# Altium schematic symbol library Connectors-FFC_FPC.SchLib: 37 symbols
Pins are listed as number, name and electrical type; pins without a type are passive.

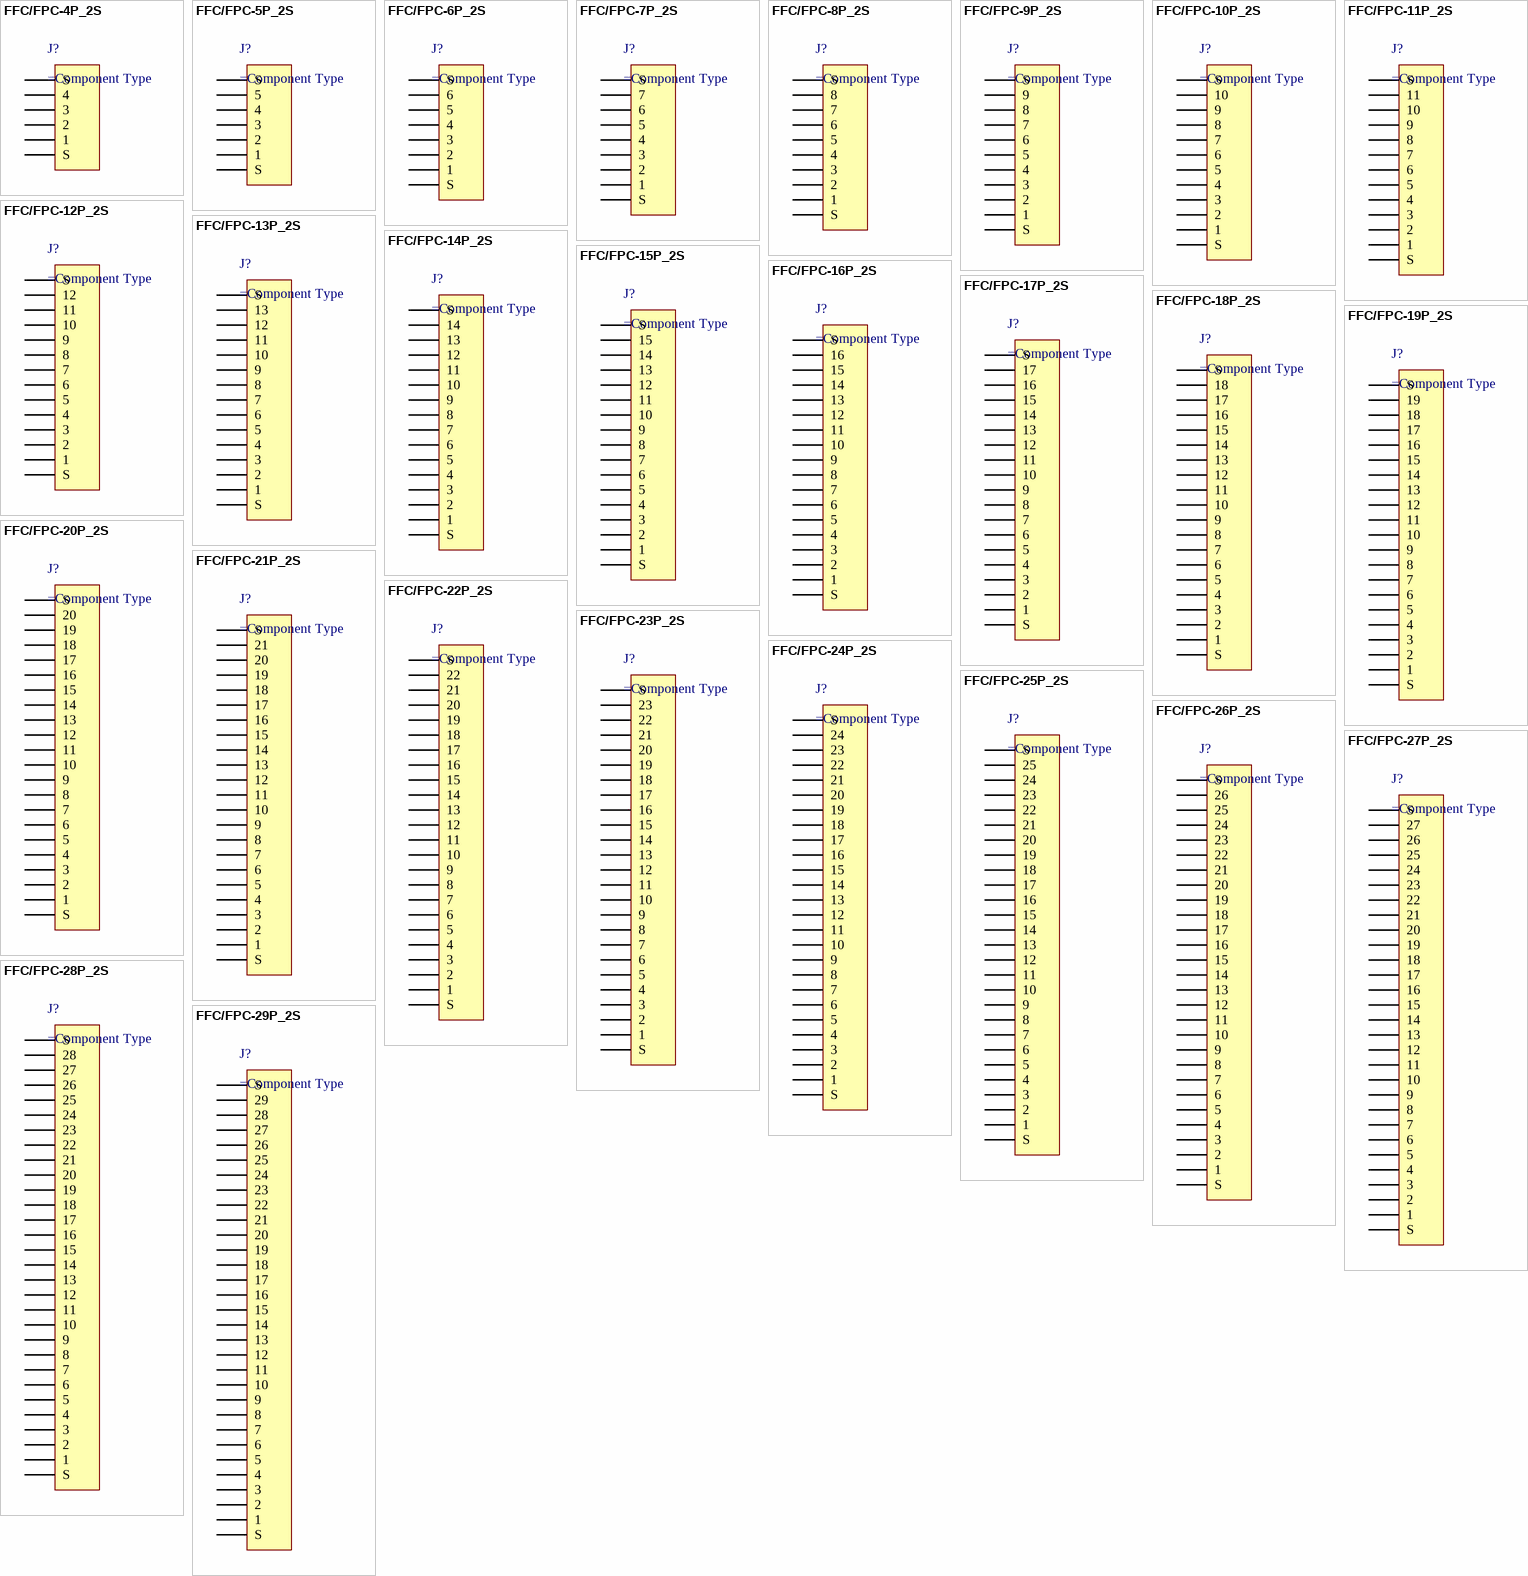
[diagram p0: symbols FFC/FPC-4P_2S to FFC/FPC-29P_2S]

## FFC/FPC-4P_2S
designator J?
pins: 1, 2, 3, 4, 5 S, 6 S

## FFC/FPC-5P_2S
designator J?
pins: 1, 2, 3, 4, 5, 6 S, 7 S

## FFC/FPC-6P_2S
designator J?
pins: 1, 2, 3, 4, 5, 6, 7 S, 8 S

## FFC/FPC-7P_2S
designator J?
pins: 1, 2, 3, 4, 5, 6, 7, 8 S, 9 S

## FFC/FPC-8P_2S
designator J?
pins: 1, 2, 3, 4, 5, 6, 7, 8, 9 S, 10 S

## FFC/FPC-9P_2S
designator J?
pins: 1, 2, 3, 4, 5, 6, 7, 8, 9, 10 S, 11 S

## FFC/FPC-10P_2S
designator J?
pins: 1, 2, 3, 4, 5, 6, 7, 8, 9, 10, 11 S, 12 S

## FFC/FPC-11P_2S
designator J?
pins: 1, 2, 3, 4, 5, 6, 7, 8, 9, 10, 11, 12 S, 13 S

## FFC/FPC-12P_2S
designator J?
pins: 1, 2, 3, 4, 5, 6, 7, 8, 9, 10, 11, 12, 13 S, 14 S

## FFC/FPC-13P_2S
designator J?
pins: 1, 2, 3, 4, 5, 6, 7, 8, 9, 10, 11, 12, 13, 14 S, 15 S

## FFC/FPC-14P_2S
designator J?
pins: 1, 2, 3, 4, 5, 6, 7, 8, 9, 10, 11, 12, 13, 14, 15 S, 16 S

## FFC/FPC-15P_2S
designator J?
pins: 1, 2, 3, 4, 5, 6, 7, 8, 9, 10, 11, 12, 13, 14, 15, 16 S, 17 S

## FFC/FPC-16P_2S
designator J?
pins: 1, 2, 3, 4, 5, 6, 7, 8, 9, 10, 11, 12, 13, 14, 15, 16, 17 S, 18 S

## FFC/FPC-17P_2S
designator J?
pins: 1, 2, 3, 4, 5, 6, 7, 8, 9, 10, 11, 12, 13, 14, 15, 16, 17, 18 S, 19 S

## FFC/FPC-18P_2S
designator J?
pins: 1, 2, 3, 4, 5, 6, 7, 8, 9, 10, 11, 12, 13, 14, 15, 16, 17, 18, 19 S, 20 S

## FFC/FPC-19P_2S
designator J?
pins: 1, 2, 3, 4, 5, 6, 7, 8, 9, 10, 11, 12, 13, 14, 15, 16, 17, 18, 19, 20 S, 21 S

## FFC/FPC-20P_2S
designator J?
pins: 1, 2, 3, 4, 5, 6, 7, 8, 9, 10, 11, 12, 13, 14, 15, 16, 17, 18, 19, 20, 21 S, 22 S

## FFC/FPC-21P_2S
designator J?
pins: 1, 2, 3, 4, 5, 6, 7, 8, 9, 10, 11, 12, 13, 14, 15, 16, 17, 18, 19, 20, 21, 22 S, 23 S

## FFC/FPC-22P_2S
designator J?
pins: 1, 2, 3, 4, 5, 6, 7, 8, 9, 10, 11, 12, 13, 14, 15, 16, 17, 18, 19, 20, 21, 22, 23 S, 24 S

## FFC/FPC-23P_2S
designator J?
pins: 1, 2, 3, 4, 5, 6, 7, 8, 9, 10, 11, 12, 13, 14, 15, 16, 17, 18, 19, 20, 21, 22, 23, 24 S, 25 S

## FFC/FPC-24P_2S
designator J?
pins: 1, 2, 3, 4, 5, 6, 7, 8, 9, 10, 11, 12, 13, 14, 15, 16, 17, 18, 19, 20, 21, 22, 23, 24, 25 S, 26 S

## FFC/FPC-25P_2S
designator J?
pins: 1, 2, 3, 4, 5, 6, 7, 8, 9, 10, 11, 12, 13, 14, 15, 16, 17, 18, 19, 20, 21, 22, 23, 24, 25, 26 S, 27 S

## FFC/FPC-26P_2S
designator J?
pins: 1, 2, 3, 4, 5, 6, 7, 8, 9, 10, 11, 12, 13, 14, 15, 16, 17, 18, 19, 20, 21, 22, 23, 24, 25, 26, 27 S, 28 S

## FFC/FPC-27P_2S
designator J?
pins: 1, 2, 3, 4, 5, 6, 7, 8, 9, 10, 11, 12, 13, 14, 15, 16, 17, 18, 19, 20, 21, 22, 23, 24, 25, 26, 27, 28 S, 29 S

## FFC/FPC-28P_2S
designator J?
pins: 1, 2, 3, 4, 5, 6, 7, 8, 9, 10, 11, 12, 13, 14, 15, 16, 17, 18, 19, 20, 21, 22, 23, 24, 25, 26, 27, 28, 29 S, 30 S

## FFC/FPC-29P_2S
designator J?
pins: 1, 2, 3, 4, 5, 6, 7, 8, 9, 10, 11, 12, 13, 14, 15, 16, 17, 18, 19, 20, 21, 22, 23, 24, 25, 26, 27, 28, 29, 30 S, 31 S

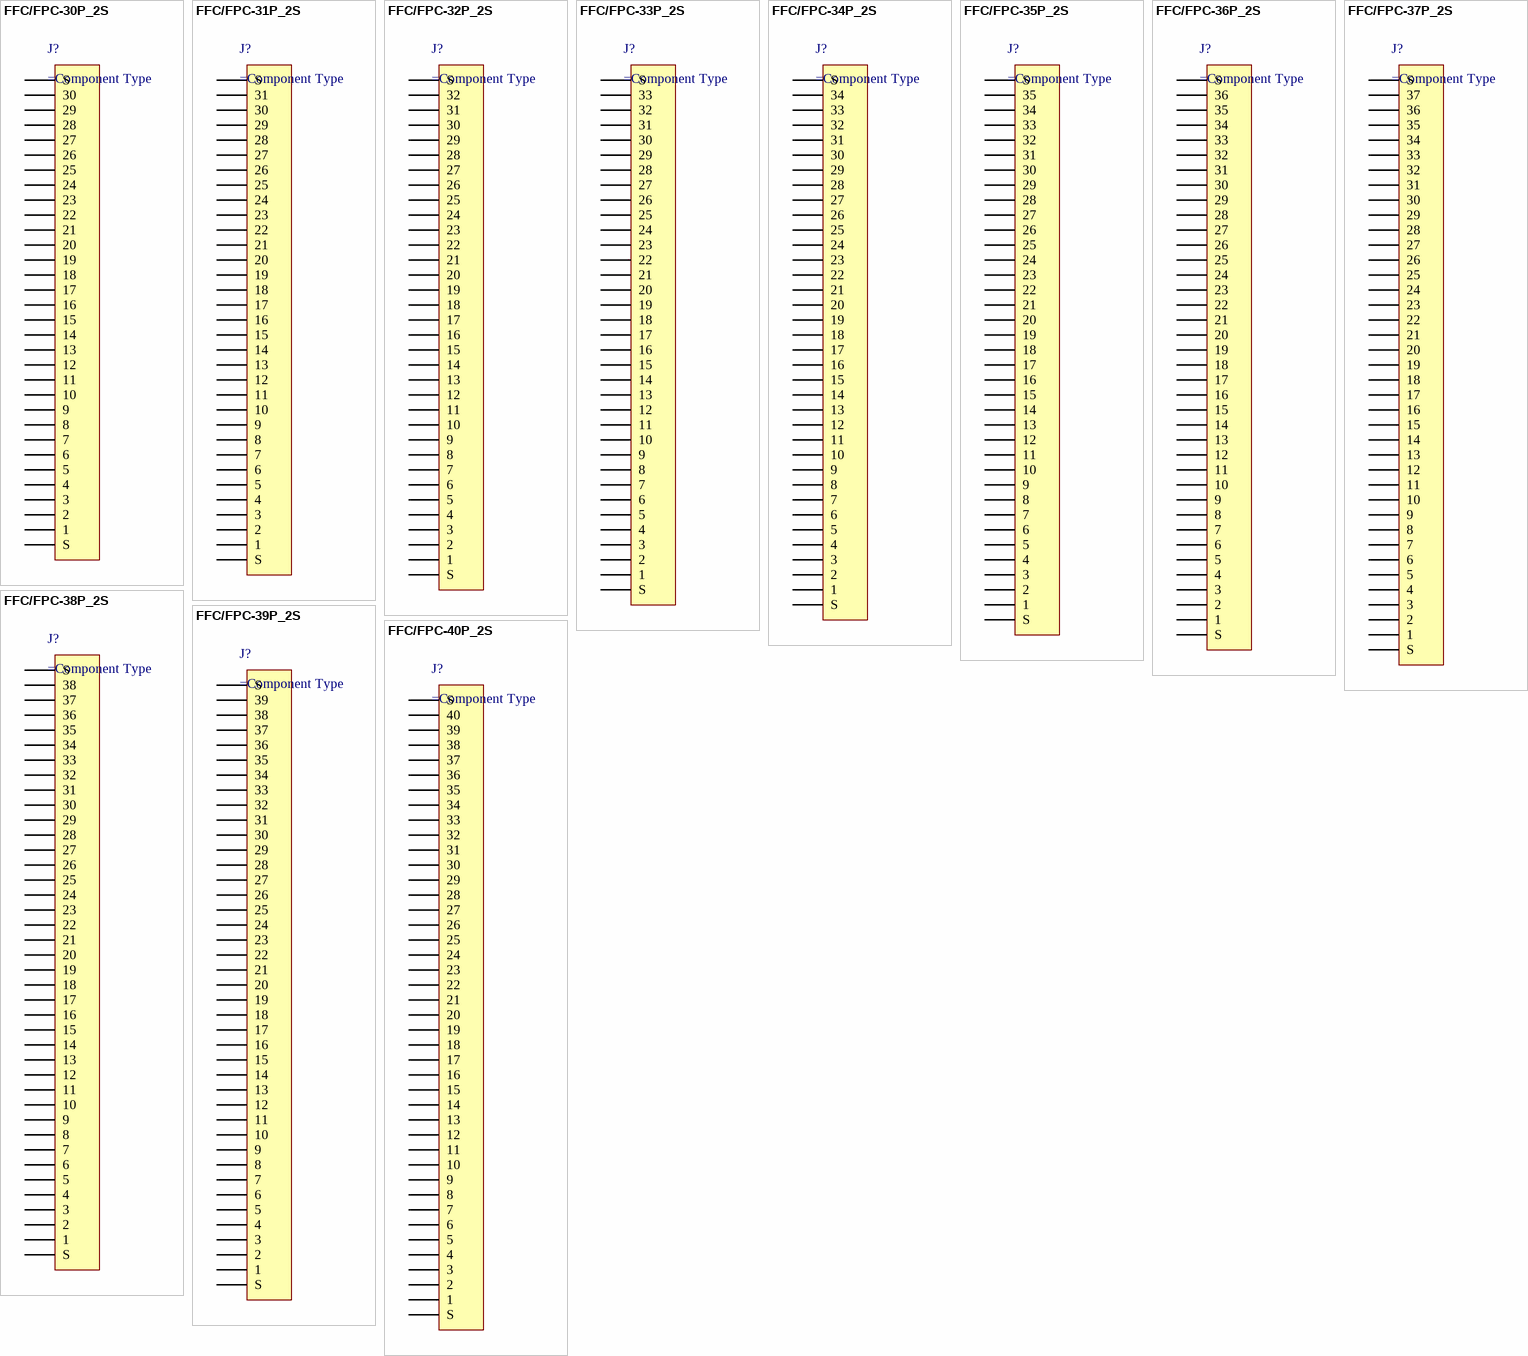
[diagram p1: symbols FFC/FPC-30P_2S to FFC/FPC-40P_2S]

## FFC/FPC-30P_2S
designator J?
pins: 1, 2, 3, 4, 5, 6, 7, 8, 9, 10, 11, 12, 13, 14, 15, 16, 17, 18, 19, 20, 21, 22, 23, 24, 25, 26, 27, 28, 29, 30, 31 S, 32 S

## FFC/FPC-31P_2S
designator J?
pins: 1, 2, 3, 4, 5, 6, 7, 8, 9, 10, 11, 12, 13, 14, 15, 16, 17, 18, 19, 20, 21, 22, 23, 24, 25, 26, 27, 28, 29, 30, 31, 32 S, 33 S

## FFC/FPC-32P_2S
designator J?
pins: 1, 2, 3, 4, 5, 6, 7, 8, 9, 10, 11, 12, 13, 14, 15, 16, 17, 18, 19, 20, 21, 22, 23, 24, 25, 26, 27, 28, 29, 30, 31, 32, 33 S, 34 S

## FFC/FPC-33P_2S
designator J?
pins: 1, 2, 3, 4, 5, 6, 7, 8, 9, 10, 11, 12, 13, 14, 15, 16, 17, 18, 19, 20, 21, 22, 23, 24, 25, 26, 27, 28, 29, 30, 31, 32, 33, 34 S, 35 S

## FFC/FPC-34P_2S
designator J?
pins: 1, 2, 3, 4, 5, 6, 7, 8, 9, 10, 11, 12, 13, 14, 15, 16, 17, 18, 19, 20, 21, 22, 23, 24, 25, 26, 27, 28, 29, 30, 31, 32, 33, 34, 35 S, 36 S

## FFC/FPC-35P_2S
designator J?
pins: 1, 2, 3, 4, 5, 6, 7, 8, 9, 10, 11, 12, 13, 14, 15, 16, 17, 18, 19, 20, 21, 22, 23, 24, 25, 26, 27, 28, 29, 30, 31, 32, 33, 34, 35, 36 S, 37 S

## FFC/FPC-36P_2S
designator J?
pins: 1, 2, 3, 4, 5, 6, 7, 8, 9, 10, 11, 12, 13, 14, 15, 16, 17, 18, 19, 20, 21, 22, 23, 24, 25, 26, 27, 28, 29, 30, 31, 32, 33, 34, 35, 36, 37 S, 38 S

## FFC/FPC-37P_2S
designator J?
pins: 1, 2, 3, 4, 5, 6, 7, 8, 9, 10, 11, 12, 13, 14, 15, 16, 17, 18, 19, 20, 21, 22, 23, 24, 25, 26, 27, 28, 29, 30, 31, 32, 33, 34, 35, 36, 37, 38 S, 39 S

## FFC/FPC-38P_2S
designator J?
pins: 1, 2, 3, 4, 5, 6, 7, 8, 9, 10, 11, 12, 13, 14, 15, 16, 17, 18, 19, 20, 21, 22, 23, 24, 25, 26, 27, 28, 29, 30, 31, 32, 33, 34, 35, 36, 37, 38, 39 S, 40 S

## FFC/FPC-39P_2S
designator J?
pins: 1, 2, 3, 4, 5, 6, 7, 8, 9, 10, 11, 12, 13, 14, 15, 16, 17, 18, 19, 20, 21, 22, 23, 24, 25, 26, 27, 28, 29, 30, 31, 32, 33, 34, 35, 36, 37, 38, 39, 40 S, 41 S

## FFC/FPC-40P_2S
designator J?
pins: 1, 2, 3, 4, 5, 6, 7, 8, 9, 10, 11, 12, 13, 14, 15, 16, 17, 18, 19, 20, 21, 22, 23, 24, 25, 26, 27, 28, 29, 30, 31, 32, 33, 34, 35, 36, 37, 38, 39, 40, 41 S, 42 S